# Altium footprint library SOT23-8.PcbLib: 1 footprints
Each footprint in its own frame and in the unit in brackets; x right, y up, seen from the top. Pads: shape width x height; smd on the part's side, far side on the other; paste and mask are expansions set on the pad; w line width, h text height; cw(c..) or ccw(c..) is an arc to the next point about the centre after c.
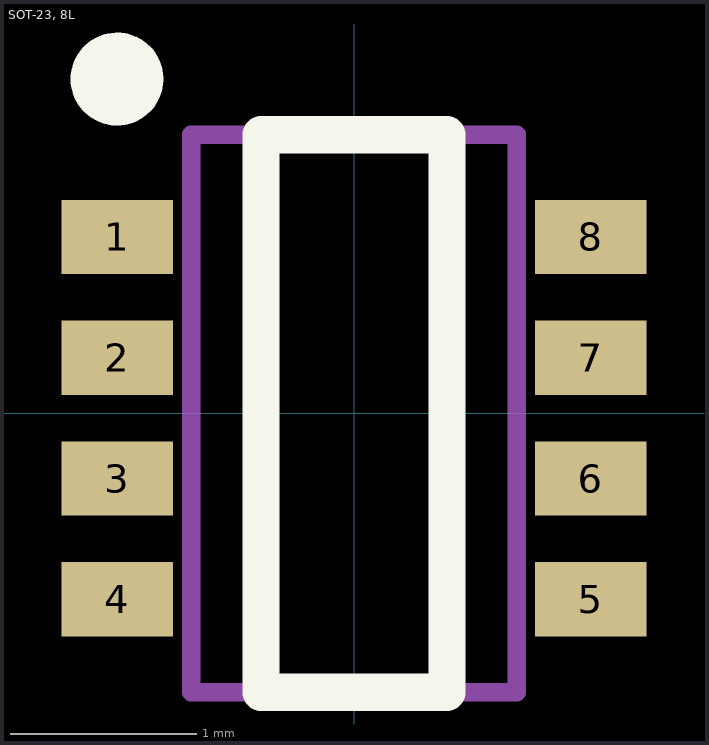
[diagram p0: the footprint, top view; thin cyan lines are the x and y axes]

## SOT-23, 8L [mm] "SOT23, 8-Leads, MAXIM 21-0078"
height 1.45
pads (8):
  rect 0.6x0.4 smd: 1(-1.275,0.95) 2(-1.275,0.3) 3(-1.275,-0.35) 4(-1.275,-1) 5(1.275,-1) 6(1.275,-0.35) 7(1.275,0.3) 8(1.275,0.95)
Top Overlay:
  circle w0.25: c-1.275,1.8 r0.125
  lines w0.2: -0.5,-1.5 0.5,-1.5 0.5,1.5 -0.5,1.5 -0.5,-1.5
TopBody:
  lines w0.1: -0.875,-1.5 -0.875,1.5 0.875,1.5 0.875,-1.5 -0.875,-1.5
3D body: height 1.45, standoff 0, extent -0.875,-1.5 0.875,1.5